# EAGLE library part 691312510007 (library Wurth_Terminal_Blocks_Connectors_rev15d)
WR-TBL Serie 312 - 5.08 mm Open Horizontal PCB Header , 7 Pins=>Code : Con_TBL_Pluggable_5.08_PCB_THT_Simple_H_691312510007 <http://katalog.we-online.de/media/images/eican/Con_TBL_Pluggable_5.08_PCB_THT_Simple_H_6913125100xx_pf2.jpg> Details see: http://katalog.we-online.de/en/em/691_312_510_0xx Created 2014-06-25, Karrer Zheng 2014 (C) Würth Elektronik
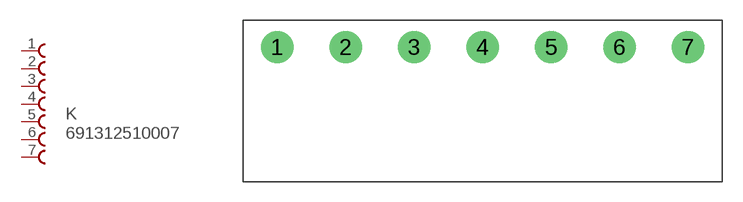
[diagram p132: symbol with the pads of 691312510007; footprint 691312510007]

Designator prefix K

## 691312510007  [691312510007]
1  1  pas
2  2  pas
3  3  pas
4  4  pas
5  5  pas
6  6  pas
7  7  pas

## Footprint 691312510007 (pad centres in mm)
WR-TBL Serie 312 - 5.08 mm Open Horizontal PCB Header , 7 Pins
drill 1.6: 1 -15.24,0; 2 -10.16,0; 3 -5.08,0; 4 0,0; 5 5.08,0; 6 10.16,0; 7 15.24,0